# Altium footprint library Pcblib_20110825.Pcblib: 407 footprints (part 23 of 26)
Each footprint in its own frame and in the unit in brackets; x right, y up, seen from the top. Pads: shape width x height; smd on the part's side, far side on the other; paste and mask are expansions set on the pad; w line width, h text height; cw(c..) or ccw(c..) is an arc to the next point about the centre after c.
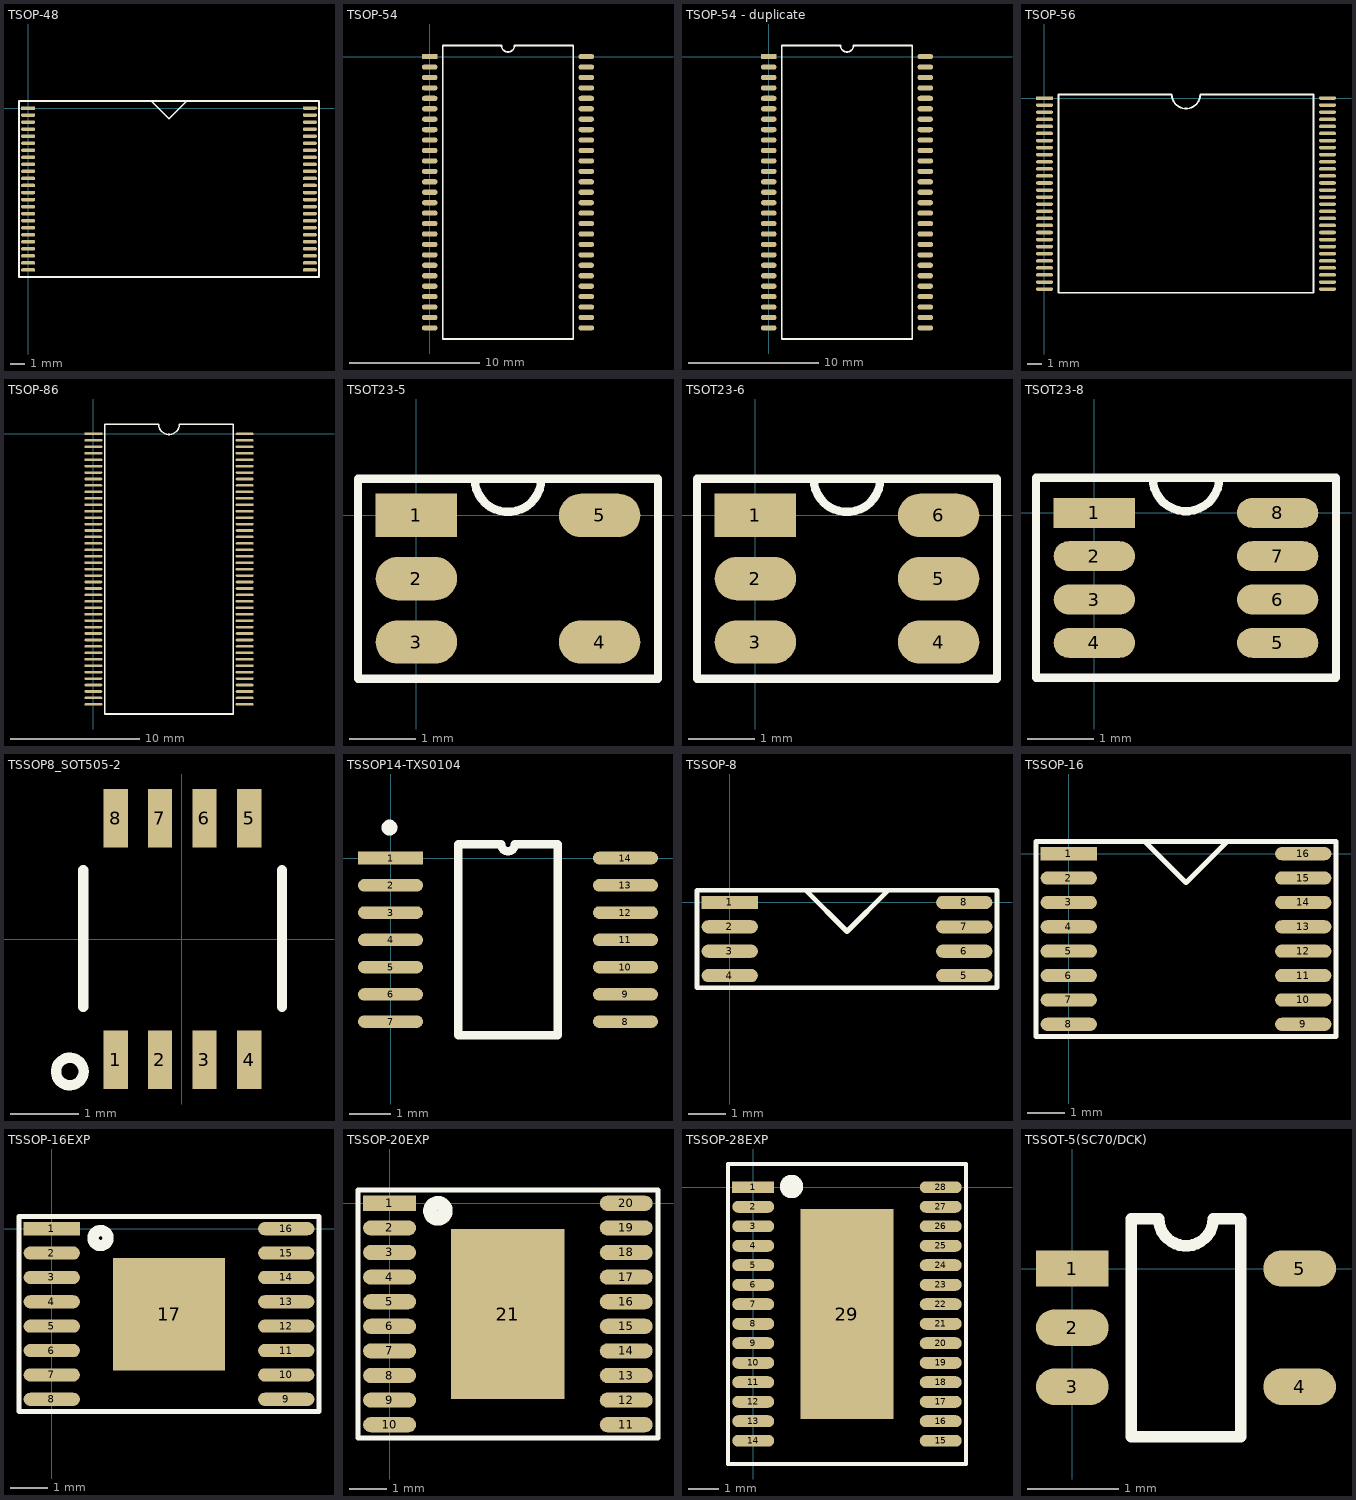
[diagram p22: the footprints below, top view; thin cyan lines are the x and y axes]

## TSOP-48 [mm]
pads (48):
  rect 1x0.25 smd: 1(0,0)
  oval 1x0.25 smd: 2(0,-0.5) 3(0,-1) 4(0,-1.5) 5(0,-2) 6(0,-2.5) 7(0,-3) 8(0,-3.5) 9(0,-4) 10(0,-4.5) 11(0,-5) 12(0,-5.5) 13(0,-6) 14(0,-6.5) 15(0,-7) 16(0,-7.5) 17(0,-8) 18(0,-8.5) 19(0,-9) 20(0,-9.5) 21(0,-10) 22(0,-10.5) 23(0,-11) 24(0,-11.5) 25(20,-11.5) 26(20,-11) 27(20,-10.5) 28(20,-10) 29(20,-9.5) 30(20,-9) 31(20,-8.5) 32(20,-8) 33(20,-7.5) 34(20,-7) 35(20,-6.5) 36(20,-6) 37(20,-5.5) 38(20,-5) 39(20,-4.5) 40(20,-4) 41(20,-3.5) 42(20,-3) 43(20,-2.5) 44(20,-2) 45(20,-1.5) 46(20,-1) 47(20,-0.5) 48(20,0)
TopOverlay:
  lines w0.127: 8.75,0.5 10,-0.75 11.25,0.5 ; -0.65,-12 -0.65,0.5 20.65,0.5 20.65,-12 -0.65,-12

## TSOP-54 [mm]
pads (54):
  rect 1.2x0.4 smd: 1(0,0)
  oval 1.2x0.4 smd: 2(0,-0.8) 3(0,-1.6) 4(0,-2.4) 5(0,-3.2) 6(0,-4) 7(0,-4.8) 8(0,-5.6) 9(0,-6.4) 10(0,-7.2) 11(0,-8) 12(0,-8.8) 13(0,-9.6) 14(0,-10.4) 15(0,-11.2) 16(0,-12) 17(0,-12.8) 18(0,-13.6) 19(0,-14.4) 20(0,-15.2) 21(0,-16) 22(0,-16.8) 23(0,-17.6) 24(0,-18.4) 25(0,-19.2) 26(0,-20) 27(0,-20.8) 28(12,-20.8) 29(12,-20) 30(12,-19.2) 31(12,-18.4) 32(12,-17.6) 33(12,-16.8) 34(12,-16) 35(12,-15.2) 36(12,-14.4) 37(12,-13.6) 38(12,-12.8) 39(12,-12) 40(12,-11.2) 41(12,-10.4) 42(12,-9.6) 43(12,-8.8) 44(12,-8) 45(12,-7.2) 46(12,-6.4) 47(12,-5.6) 48(12,-4.8) 49(12,-4) 50(12,-3.2) 51(12,-2.4) 52(12,-1.6) 53(12,-0.8) 54(12,0)
TopOverlay:
  lines w0.127: 1,-21.65 11,-21.65 11,0.85 6.5,0.85 cw(c6,0.85) 5.5,0.85 1,0.85 1,-21.65

## TSOP-54 - duplicate [mm]
pads (54):
  rect 1.2x0.4 smd: 1(0,0)
  oval 1.2x0.4 smd: 2(0,-0.8) 3(0,-1.6) 4(0,-2.4) 5(0,-3.2) 6(0,-4) 7(0,-4.8) 8(0,-5.6) 9(0,-6.4) 10(0,-7.2) 11(0,-8) 12(0,-8.8) 13(0,-9.6) 14(0,-10.4) 15(0,-11.2) 16(0,-12) 17(0,-12.8) 18(0,-13.6) 19(0,-14.4) 20(0,-15.2) 21(0,-16) 22(0,-16.8) 23(0,-17.6) 24(0,-18.4) 25(0,-19.2) 26(0,-20) 27(0,-20.8) 28(12,-20.8) 29(12,-20) 30(12,-19.2) 31(12,-18.4) 32(12,-17.6) 33(12,-16.8) 34(12,-16) 35(12,-15.2) 36(12,-14.4) 37(12,-13.6) 38(12,-12.8) 39(12,-12) 40(12,-11.2) 41(12,-10.4) 42(12,-9.6) 43(12,-8.8) 44(12,-8) 45(12,-7.2) 46(12,-6.4) 47(12,-5.6) 48(12,-4.8) 49(12,-4) 50(12,-3.2) 51(12,-2.4) 52(12,-1.6) 53(12,-0.8) 54(12,0)
TopOverlay:
  lines w0.127: 1,-21.65 11,-21.65 11,0.85 6.5,0.85 cw(c6,0.85) 5.5,0.85 1,0.85 1,-21.65

## TSOP-56 [mm]
pads (56):
  rect 1.2x0.25 smd: 1(0,0)
  oval 1.2x0.25 smd: 2(0,-0.5) 3(0,-1) 4(0,-1.5) 5(0,-2) 6(0,-2.5) 7(0,-3) 8(0,-3.5) 9(0,-4) 10(0,-4.5) 11(0,-5) 12(0,-5.5) 13(0,-6) 14(0,-6.5) 15(0,-7) 16(0,-7.5) 17(0,-8) 18(0,-8.5) 19(0,-9) 20(0,-9.5) 21(0,-10) 22(0,-10.5) 23(0,-11) 24(0,-11.5) 25(0,-12) 26(0,-12.5) 27(0,-13) 28(0,-13.5) 29(20,-13.5) 30(20,-13) 31(20,-12.5) 32(20,-12) 33(20,-11.5) 34(20,-11) 35(20,-10.5) 36(20,-10) 37(20,-9.5) 38(20,-9) 39(20,-8.5) 40(20,-8) 41(20,-7.5) 42(20,-7) 43(20,-6.5) 44(20,-6) 45(20,-5.5) 46(20,-5) 47(20,-4.5) 48(20,-4) 49(20,-3.5) 50(20,-3) 51(20,-2.5) 52(20,-2) 53(20,-1.5) 54(20,-1) 55(20,-0.5) 56(20,0)
TopOverlay:
  lines w0.127: 1,-13.75 19,-13.75 19,0.25 11,0.25 cw(c10,0.25) 9,0.25 1,0.25 1,-13.75

## TSOP-86 [mm]
pads (86):
  rect 1.4x0.2 smd: 1(0,0)
  oval 1.4x0.2 smd: 2(0,-0.5) 3(0,-1) 4(0,-1.5) 5(0,-2) 6(0,-2.5) 7(0,-3) 8(0,-3.5) 9(0,-4) 10(0,-4.5) 11(0,-5) 12(0,-5.5) 13(0,-6) 14(0,-6.5) 15(0,-7) 16(0,-7.5) 17(0,-8) 18(0,-8.5) 19(0,-9) 20(0,-9.5) 21(0,-10) 22(0,-10.5) 23(0,-11) 24(0,-11.5) 25(0,-12) 26(0,-12.5) 27(0,-13) 28(0,-13.5) 29(0,-14) 30(0,-14.5) 31(0,-15) 32(0,-15.5) 33(0,-16) 34(0,-16.5) 35(0,-17) 36(0,-17.5) 37(0,-18) 38(0,-18.5) 39(0,-19) 40(0,-19.5) 41(0,-20) 42(0,-20.5) 43(0,-21) 44(11.75,-21) 45(11.75,-20.5) 46(11.75,-20) 47(11.75,-19.5) 48(11.75,-19) 49(11.75,-18.5) 50(11.75,-18) 51(11.75,-17.5) 52(11.75,-17) 53(11.75,-16.5) 54(11.75,-16) 55(11.75,-15.5) 56(11.75,-15) 57(11.75,-14.5) 58(11.75,-14) 59(11.75,-13.5) 60(11.75,-13) 61(11.75,-12.5) 62(11.75,-12) 63(11.75,-11.5) 64(11.75,-11) 65(11.75,-10.5) 66(11.75,-10) 67(11.75,-9.5) 68(11.75,-9) 69(11.75,-8.5) 70(11.75,-8) 71(11.75,-7.5) 72(11.75,-7) 73(11.75,-6.5) 74(11.75,-6) 75(11.75,-5.5) 76(11.75,-5) 77(11.75,-4.5) 78(11.75,-4) 79(11.75,-3.5) 80(11.75,-3) 81(11.75,-2.5) 82(11.75,-2) 83(11.75,-1.5) 84(11.75,-1) 85(11.75,-0.5) 86(11.75,0)
TopOverlay:
  lines w0.127: 0.875,-21.75 10.875,-21.75 10.875,0.75 6.675,0.75 cw(c5.875,0.75) 5.075,0.75 0.875,0.75 0.875,-21.75

## TSOT23-5 [mm]
pads (5):
  rect 1.22x0.65 smd: 1(0,0)
  oval 1.22x0.65 smd: 2(0,-0.95) 3(0,-1.9) 4(2.75,-1.9) 5(2.75,0)
TopOverlay:
  lines w0.127: 0.875,0.55 ccw(c1.375,0.55) 1.875,0.55 ; -0.875,-2.45 -0.875,0.55 3.625,0.55 3.625,-2.45 -0.875,-2.45

## TSOT23-6 [mm]
pads (6):
  rect 1.22x0.65 smd: 1(0,0)
  oval 1.22x0.65 smd: 2(0,-0.95) 3(0,-1.9) 4(2.75,-1.9) 5(2.75,-0.95) 6(2.75,0)
TopOverlay:
  lines w0.127: 0.875,0.55 ccw(c1.375,0.55) 1.875,0.55 ; -0.875,-2.45 3.625,-2.45 3.625,0.55 -0.875,0.55 -0.875,-2.45

## TSOT23-8 [mm]
pads (8):
  rect 1.22x0.45 smd: 1(0,0)
  oval 1.22x0.45 smd: 2(0,-0.65) 3(0,-1.3) 4(0,-1.95) 5(2.75,-1.95) 6(2.75,-1.3) 7(2.75,-0.65) 8(2.75,0)
TopOverlay:
  lines w0.127: 0.875,0.525 ccw(c1.375,0.525) 1.875,0.525 ; -0.875,-2.475 3.625,-2.475 3.625,0.525 -0.875,0.525 -0.875,-2.475

## TSSOP8_SOT505-2 [mil] "TSSOP8_SOT505-2"
pads (8):
  rect 14x34 smd: 1(-38.39,-69.88) 2(-12.8,-69.88) 3(13,-69.88) 4(39,-69.88) 5(39,70) 6(13,70) 7(-12.8,70) 8(-38.39,70)
TopOverlay:
  circle w6: c-64.96,-76.77 r8
  lines w6: -57.09,-39.37 -57.09,40 ; 58,-39.37 58,40

## TSSOP14-TXS0104 [mm]
pads (14):
  rect 1.55x0.3 smd: 1(0,0)
  oval 1.55x0.3 smd: 2(0,-0.65) 3(0,-1.3) 4(0,-1.95) 5(0,-2.6) 6(0,-3.25) 7(0,-3.9) 8(5.6,-3.9) 9(5.6,-3.25) 10(5.6,-2.6) 11(5.6,-1.95) 12(5.6,-1.3) 13(5.6,-0.65) 14(5.6,0)
TopOverlay:
  circle w0.2: c-0.025,0.725 r0.09
  lines w0.2: 1.61,-4.225 3.99,-4.225 3.99,0.325 2.962,0.325 cw(c2.8,0.325) 2.638,0.325 1.61,0.325 1.61,-4.225

## TSSOP-8 [mm]
pads (8):
  rect 1.5x0.35 smd: 1(0,0)
  oval 1.5x0.35 smd: 2(0,-0.65) 3(0,-1.3) 4(0,-1.95) 5(6.25,-1.95) 6(6.25,-1.3) 7(6.25,-0.65) 8(6.25,0)
TopOverlay:
  lines w0.127: 2.025,0.325 3.125,-0.775 4.225,0.325 ; -0.875,-2.275 7.125,-2.275 7.125,0.325 -0.875,0.325 -0.875,-2.275

## TSSOP-16 [mm]
pads (16):
  rect 1.5x0.35 smd: 1(0,0)
  oval 1.5x0.35 smd: 2(0,-0.65) 3(0,-1.3) 4(0,-1.95) 5(0,-2.6) 6(0,-3.25) 7(0,-3.9) 8(0,-4.55) 9(6.25,-4.55) 10(6.25,-3.9) 11(6.25,-3.25) 12(6.25,-2.6) 13(6.25,-1.95) 14(6.25,-1.3) 15(6.25,-0.65) 16(6.25,0)
TopOverlay:
  lines w0.127: 2.025,0.325 3.125,-0.775 4.225,0.325 ; -0.875,-4.875 7.125,-4.875 7.125,0.325 -0.875,0.325 -0.875,-4.875

## TSSOP-16EXP [mm]
pads (17):
  rect 1.5x0.35 smd: 1(0,0)
  oval 1.5x0.35 smd: 2(0,-0.65) 3(0,-1.3) 4(0,-1.95) 5(0,-2.6) 6(0,-3.25) 7(0,-3.9) 8(0,-4.55) 9(6.25,-4.55) 10(6.25,-3.9) 11(6.25,-3.25) 12(6.25,-2.6) 13(6.25,-1.95) 14(6.25,-1.3) 15(6.25,-0.65) 16(6.25,0)
  rect 3x3 smd: 17(3.125,-2.275)
TopOverlay:
  circle w0.3: c1.3,-0.25 r0.2
  lines w0.127: -0.875,-4.875 7.125,-4.875 7.125,0.325 -0.875,0.325 -0.875,-4.875

## TSSOP-20EXP [mm]
pads (21):
  rect 1.4x0.4 smd: 1(0,0)
  oval 1.4x0.4 smd: 2(0,-0.65) 3(0,-1.3) 4(0,-1.95) 5(0,-2.6) 6(0,-3.25) 7(0,-3.9) 8(0,-4.55) 9(0,-5.2) 10(0,-5.85) 11(6.25,-5.85) 12(6.25,-5.2) 13(6.25,-4.55) 14(6.25,-3.9) 15(6.25,-3.25) 16(6.25,-2.6) 17(6.25,-1.95) 18(6.25,-1.3) 19(6.25,-0.65) 20(6.25,0)
  rect 3x4.5 smd: 21(3.125,-2.925)
TopOverlay:
  circle w0.381: c1.275,-0.2 r0.2
  lines w0.127: -0.836,-6.202 7.089,-6.202 7.089,0.351 -0.836,0.351 -0.836,-6.202

## TSSOP-28EXP [mm]
pads (29):
  rect 1.4x0.4 smd: 1(0,0)
  oval 1.4x0.4 smd: 2(0,-0.65) 3(0,-1.3) 4(0,-1.95) 5(0,-2.6) 6(0,-3.25) 7(0,-3.9) 8(0,-4.55) 9(0,-5.2) 10(0,-5.85) 11(0,-6.5) 12(0,-7.15) 13(0,-7.8) 14(0,-8.45) 15(6.25,-8.45) 16(6.25,-7.8) 17(6.25,-7.15) 18(6.25,-6.5) 19(6.25,-5.85) 20(6.25,-5.2) 21(6.25,-4.55) 22(6.25,-3.9) 23(6.25,-3.25) 24(6.25,-2.6) 25(6.25,-1.95) 26(6.25,-1.3) 27(6.25,-0.65) 28(6.25,0)
  rect 3.1x7 smd: 29(3.125,-4.225)
TopOverlay:
  circle w0.381: c1.275,0.025 r0.2
  lines w0.127: -0.836,-9.225 -0.836,0.775 7.089,0.775 7.089,-9.225 -0.836,-9.225

## TSSOT-5(SC70/DCK) [mm]
pads (5):
  rect 0.8x0.4 smd: 1(0,0)
  oval 0.8x0.4 smd: 2(0,-0.65) 3(0,-1.3) 4(2.5,-1.3) 5(2.5,0)
TopOverlay:
  lines w0.127: 0.65,-1.85 0.65,0.55 0.95,0.55 ccw(c1.25,0.55) 1.55,0.55 1.85,0.55 1.85,-1.85 0.65,-1.85